# EAGLE library part FUBARINO_MINI (library voodoo)
Fubarino mini (version 1.5). With ISP headers up, so not included in the part
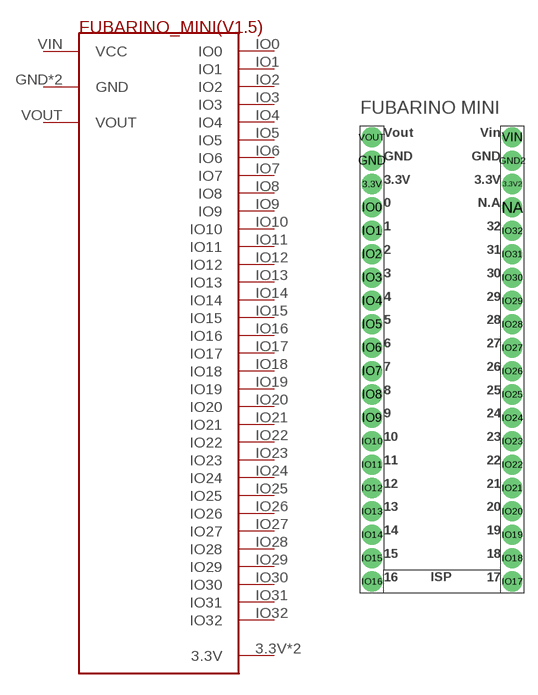
[diagram p0: symbol with the pads of FUBARINO_MINI; footprint FUBARINO_MINI]

Designator prefix -

## FUBARINO_MINI  [FUBARINO_MINI]
3.3V  3.3V  pwr
3.3V2  3.3V  pwr
GND  GND  pwr
GND2  GND  pwr
IO0  IO0
IO1  IO1
IO2  IO2
IO3  IO3
IO4  IO4
IO5  IO5
IO6  IO6
IO7  IO7
IO8  IO8
IO9  IO9
IO10  IO10
IO11  IO11
IO12  IO12
IO13  IO13
IO14  IO14
IO15  IO15
IO16  IO16
IO17  IO17
IO18  IO18
IO19  IO19
IO20  IO20
IO21  IO21
IO22  IO22
IO23  IO23
IO24  IO24
IO25  IO25
IO26  IO26
IO27  IO27
IO28  IO28
IO29  IO29
IO30  IO30
IO31  IO31
IO32  IO32
VIN  VCC  pwr
VOUT  VOUT  pwr

## Footprint FUBARINO_MINI (pad centres in mm)
drill 0.8 pad 2.184: 3.3V -7.62,20.32; 3.3V2 7.62,20.32; GND -7.62,22.86; GND2 7.62,22.86; IO0 -7.62,17.78; IO1 -7.62,15.24; IO2 -7.62,12.7; IO3 -7.62,10.16; IO4 -7.62,7.62; IO5 -7.62,5.08; IO6 -7.62,2.54; IO7 -7.62,0; IO8 -7.62,-2.54; IO9 -7.62,-5.08; IO10 -7.62,-7.62; IO11 -7.62,-10.16; IO12 -7.62,-12.7; IO13 -7.62,-15.24; IO14 -7.62,-17.78; IO15 -7.62,-20.32; IO16 -7.62,-22.86; IO17 7.62,-22.86; IO18 7.62,-20.32; IO19 7.62,-17.78; IO20 7.62,-15.24; IO21 7.62,-12.7; IO22 7.62,-10.16; IO23 7.62,-7.62; IO24 7.62,-5.08; IO25 7.62,-2.54; IO26 7.62,0; IO27 7.62,2.54; IO28 7.62,5.08; IO29 7.62,7.62; IO30 7.62,10.16; IO31 7.62,12.7; IO32 7.62,15.24; NA 7.62,17.78; VIN 7.62,25.4; VOUT -7.62,25.4